# Altium footprint library DPAK_N.PcbLib: 35 footprints (part 1 of 3)
Each footprint in its own frame and in the unit in brackets; x right, y up, seen from the top. Pads: shape width x height; smd on the part's side, far side on the other; paste and mask are expansions set on the pad; w line width, h text height; cw(c..) or ccw(c..) is an arc to the next point about the centre after c.
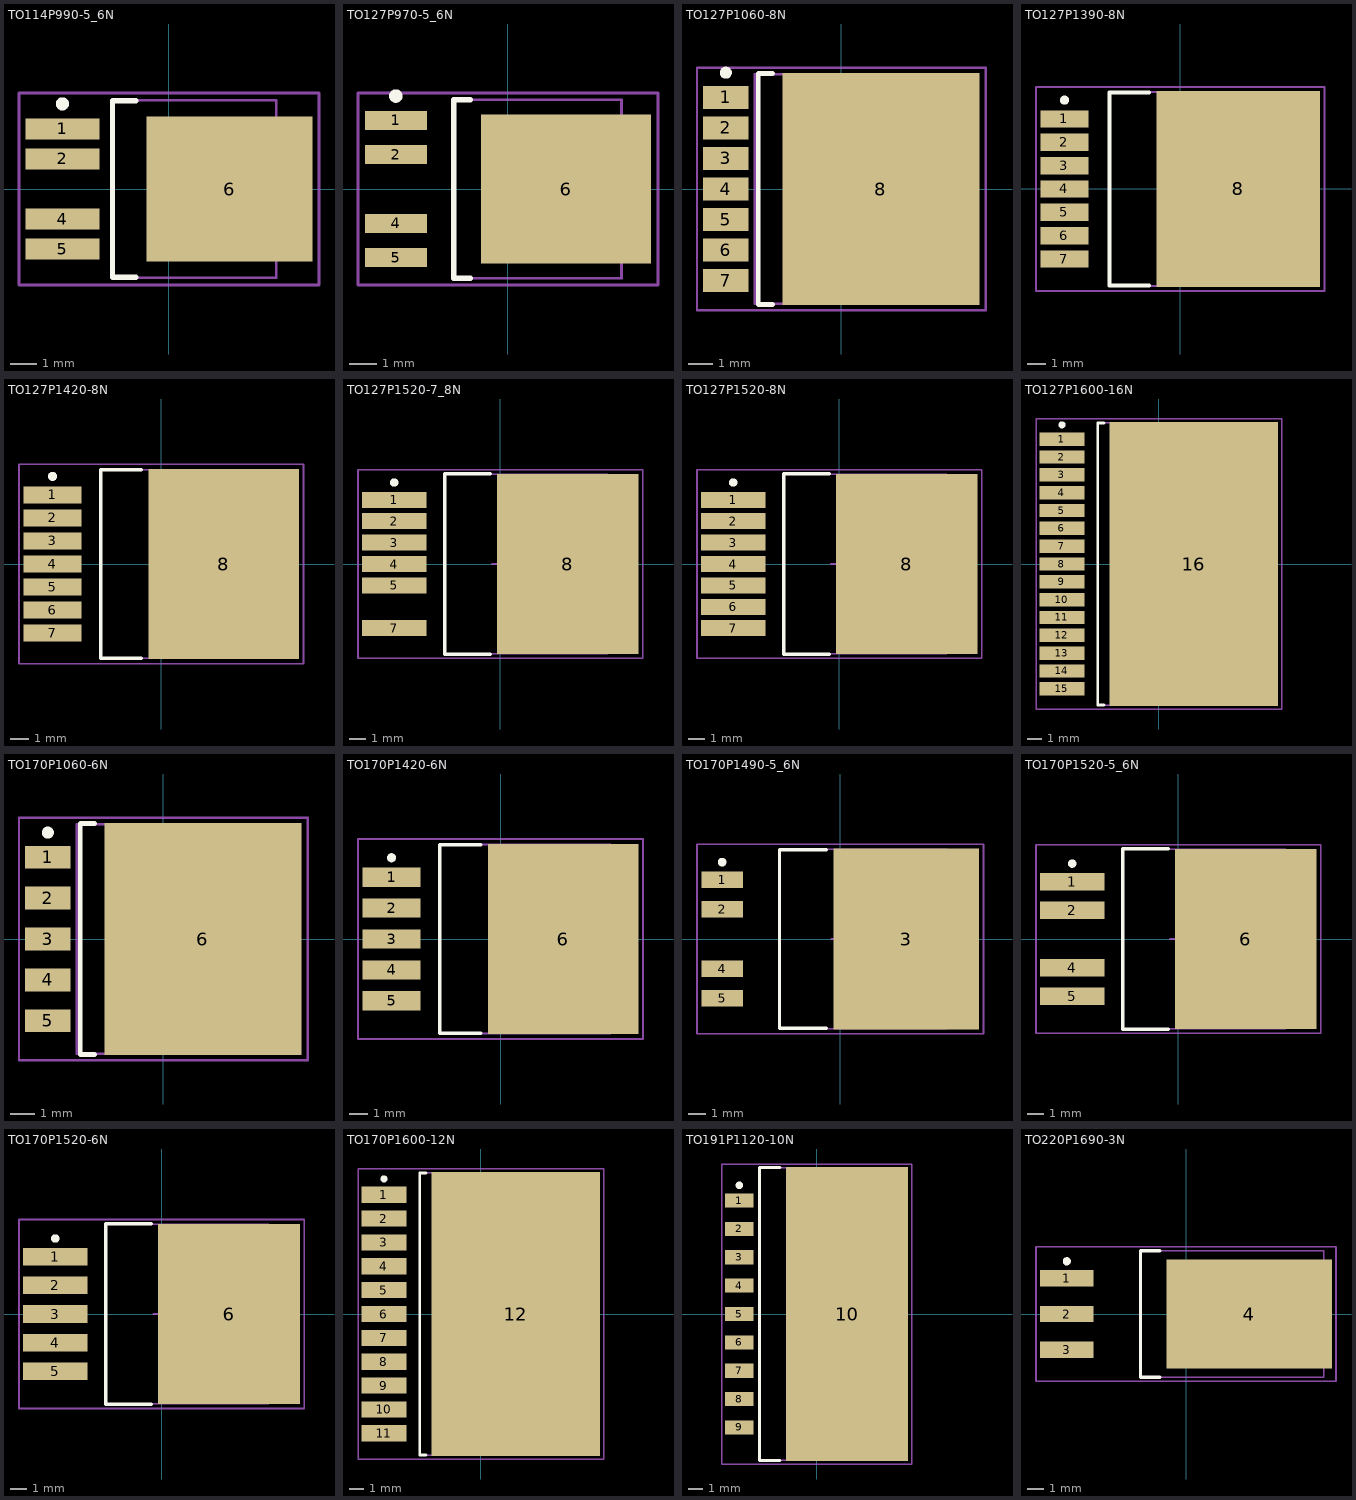
[diagram p0: the footprints below, top view; thin cyan lines are the x and y axes]

## TO114P990-5_6N [mm] "D-PAK, 6-Leads, Body 6.1x6.5mm, Pitch 1.14mm, Lead Span 9.9mm, IPC Medium Density"
height 2.39
pads (5):
  rect 2.8x0.8 smd: 1(-4.05,2.286) 2(-4.05,1.143) 4(-4.05,-1.143) 5(-4.05,-2.286)
  rect 6.3x5.5 smd: 6(2.3,0)
Top Overlay:
  circle w0.25: c-4.05,3.236 r0.125
  lines w0.2: -1.25,-3.35 -2.15,-3.35 -2.15,3.35 -1.25,3.35
Mechanical 13:
  lines w0.1: -2.15,-3.375 4.07,-3.375 4.07,3.375 -2.15,3.375 -2.15,-3.375
Mechanical 15:
  lines w0.1: -0.5,0 0.5,0 ; 0,-0.5 0,0.5 ; -5.7,-3.65 5.7,-3.65 5.7,3.65 -5.7,3.65 -5.7,-3.65
3D body: height 2.39, standoff 0, extent -2.15,-3.375 4.07,3.375

## TO127P970-5_6N [mm] "D-PAK, 6-Leads, Body 6.1x6.5mm, Pitch 1.27mm, Lead Span 9.7mm, IPC Medium Density"
height 2.4
pads (5):
  rect 2.3x0.7 smd: 1(-4.15,2.54) 2(-4.15,1.27) 4(-4.15,-1.27) 5(-4.15,-2.54)
  rect 6.3x5.5 smd: 6(2.15,0)
Top Overlay:
  circle w0.25: c-4.15,3.44 r0.125
  lines w0.2: -1.4,-3.3 -2,-3.3 -2,3.3 -1.4,3.3
Mechanical 13:
  lines w0.1: -2,-3.3 4.2,-3.3 4.2,3.3 -2,3.3 -2,-3.3
Mechanical 15:
  lines w0.1: -0.5,0 0.5,0 ; 0,-0.5 0,0.5 ; -5.55,-3.55 5.55,-3.55 5.55,3.55 -5.55,3.55 -5.55,-3.55
3D body: height 2.4, standoff 0, extent -2,-3.3 4.2,3.3

## TO127P1060-8N [mm] "D-PAK, 8-Leads, Body 8x9.4mm, Pitch 1.27mm, Lead Span 10.6mm, IPC Medium Density"
height 2.05
pads (8):
  rect 1.9x0.95 smd: 1(-4.8,3.81) 2(-4.8,2.54) 3(-4.8,1.27) 4(-4.8,0) 5(-4.8,-1.27) 6(-4.8,-2.54) 7(-4.8,-3.81)
  rect 8.2x9.65 smd: 8(1.65,0)
Top Overlay:
  circle w0.25: c-4.8,4.835 r0.125
  lines w0.2: -2.85,-4.8 -3.45,-4.8 -3.45,4.8 -2.85,4.8
Mechanical 13:
  lines w0.1: -3.6,-4.775 4.55,-4.775 4.55,4.775 -3.6,4.775 -3.6,-4.775
Mechanical 15:
  lines w0.1: -0.5,0 0.5,0 ; 0,-0.5 0,0.5 ; -6,-5.05 6,-5.05 6,5.05 -6,5.05 -6,-5.05
3D body: height 2.05, standoff 0, extent -3.6,-4.775 4.55,4.775

## TO127P1390-8N [mm] "D2-PAK, 8-Leads, Body 8.9x10.2mm, Pitch 1.27mm, Lead Span 13.9mm, IPC Medium Density"
height 4.57
pads (8):
  rect 2.6x0.95 smd: 1(-6.3,3.81) 2(-6.3,2.54) 3(-6.3,1.27) 4(-6.3,0) 5(-6.3,-1.27) 6(-6.3,-2.54) 7(-6.3,-3.81)
  rect 8.9x10.65 smd: 8(3.15,0)
Top Overlay:
  circle w0.25: c-6.3,4.835 r0.125
  lines w0.2: -1.7,-5.25 -3.85,-5.25 -3.85,5.25 -1.7,5.25
Mechanical 13:
  lines w0.1: -3.85,-5.275 5.55,-5.275 5.55,5.275 -3.85,5.275 -3.85,-5.275
Mechanical 15:
  lines w0.1: -0.5,0 0.5,0 ; 0,-0.5 0,0.5 ; -7.85,-5.55 7.85,-5.55 7.85,5.55 -7.85,5.55 -7.85,-5.55
3D body: height 4.57, standoff 0, extent -3.85,-5.275 5.55,5.275

## TO127P1420-8N [mm] "D2-PAK, 8-Leads, Body 8.9x10.1mm, Pitch 1.27mm, Lead Span 14.2mm, IPC Medium Density"
height 4.65
pads (8):
  rect 3.2x0.95 smd: 1(-6,3.81) 2(-6,2.54) 3(-6,1.27) 4(-6,0) 5(-6,-1.27) 6(-6,-2.54) 7(-6,-3.81)
  rect 8.3x10.5 smd: 8(3.45,0)
Top Overlay:
  circle w0.25: c-6,4.835 r0.125
  lines w0.2: -1.1,-5.2 -3.35,-5.2 -3.35,5.2 -1.1,5.2
Mechanical 13:
  lines w0.1: -3.35,-5.2 6.05,-5.2 6.05,5.2 -3.35,5.2 -3.35,-5.2
Mechanical 15:
  lines w0.1: -0.5,0 0.5,0 ; 0,-0.5 0,0.5 ; -7.85,-5.5 7.85,-5.5 7.85,5.5 -7.85,5.5 -7.85,-5.5
3D body: height 4.65, standoff 0, extent -3.35,-5.2 6.05,5.2

## TO127P1520-7_8N [mm] "D2-PAK, 8-Leads, Body 9x10.2mm, Pitch 1.27mm, Lead Span 15.2mm, IPC Medium Density"
height 4.83
pads (7):
  rect 3.8x0.95 smd: 1(-6.3,3.81) 2(-6.3,2.54) 3(-6.3,1.27) 4(-6.3,0) 5(-6.3,-1.27) 7(-6.3,-3.81)
  rect 8.4x10.7 smd: 8(4,0)
Top Overlay:
  circle w0.25: c-6.3,4.835 r0.125
  lines w0.2: -0.6,-5.35 -3.3,-5.35 -3.3,5.35 -0.6,5.35
Mechanical 13:
  lines w0.1: -3.3,-5.325 6.35,-5.325 6.35,5.325 -3.3,5.325 -3.3,-5.325
Mechanical 15:
  lines w0.1: -0.5,0 0.5,0 ; 0,-0.5 0,0.5 ; -8.45,-5.6 8.45,-5.6 8.45,5.6 -8.45,5.6 -8.45,-5.6
3D body: height 4.83, standoff 0, extent -3.3,-5.325 6.35,5.325

## TO127P1520-8N [mm] "D2-PAK, 8-Leads, Body 9x10.2mm, Pitch 1.27mm, Lead Span 15.2mm, IPC Medium Density"
height 4.83
pads (8):
  rect 3.8x0.95 smd: 1(-6.3,3.81) 2(-6.3,2.54) 3(-6.3,1.27) 4(-6.3,0) 5(-6.3,-1.27) 6(-6.3,-2.54) 7(-6.3,-3.81)
  rect 8.4x10.7 smd: 8(4,0)
Top Overlay:
  circle w0.25: c-6.3,4.835 r0.125
  lines w0.2: -0.6,-5.35 -3.3,-5.35 -3.3,5.35 -0.6,5.35
Mechanical 13:
  lines w0.1: -3.3,-5.325 6.35,-5.325 6.35,5.325 -3.3,5.325 -3.3,-5.325
Mechanical 15:
  lines w0.1: -0.5,0 0.5,0 ; 0,-0.5 0,0.5 ; -8.45,-5.6 8.45,-5.6 8.45,5.6 -8.45,5.6 -8.45,-5.6
3D body: height 4.83, standoff 0, extent -3.3,-5.325 6.35,5.325

## TO127P1600-16N [mm] "TO, 16-Leads, Body 10.7x20mm, Pitch 1.27mm, Lead Span 16mm, IPC Medium Density"
height 4.65
pads (16):
  rect 3.2x0.95 smd: 1(-6.9,8.89) 2(-6.9,7.62) 3(-6.9,6.35) 4(-6.9,5.08) 5(-6.9,3.81) 6(-6.9,2.54) 7(-6.9,1.27) 8(-6.9,0) 9(-6.9,-1.27) 10(-6.9,-2.54) 11(-6.9,-3.81) 12(-6.9,-5.08) 13(-6.9,-6.35) 14(-6.9,-7.62) 15(-6.9,-8.89)
  rect 12x20.25 smd: 16(2.5,0)
Top Overlay:
  circle w0.25: c-6.9,9.915 r0.125
  lines w0.2: -3.9,-10.05 -4.35,-10.05 -4.35,10.05 -3.9,10.05
Mechanical 13:
  lines w0.1: -4.35,-10.075 6.47,-10.075 6.47,10.075 -4.35,10.075 -4.35,-10.075
Mechanical 15:
  lines w0.1: -0.5,0 0.5,0 ; 0,-0.5 0,0.5 ; -8.75,-10.35 8.75,-10.35 8.75,10.35 -8.75,10.35 -8.75,-10.35
3D body: height 4.65, standoff 0, extent -4.35,-10.075 6.47,10.075

## TO170P1060-6N [mm] "D-PAK, 6-Leads, Body 8x9.4mm, Pitch 1.7mm, Lead Span 10.6mm, IPC Medium Density"
height 2.05
pads (6):
  rect 1.9x0.95 smd: 1(-4.8,3.4) 2(-4.8,1.7) 3(-4.8,0) 4(-4.8,-1.7) 5(-4.8,-3.4)
  rect 8.2x9.65 smd: 6(1.65,0)
Top Overlay:
  circle w0.25: c-4.8,4.425 r0.125
  lines w0.2: -2.85,-4.8 -3.45,-4.8 -3.45,4.8 -2.85,4.8
Mechanical 13:
  lines w0.1: -3.6,-4.775 4.55,-4.775 4.55,4.775 -3.6,4.775 -3.6,-4.775
Mechanical 15:
  lines w0.1: -0.5,0 0.5,0 ; 0,-0.5 0,0.5 ; -6,-5.05 6,-5.05 6,5.05 -6,5.05 -6,-5.05
3D body: height 2.05, standoff 0, extent -3.6,-4.775 4.55,4.775

## TO170P1420-6N [mm] "D2-PAK, 6-Leads, Body 8.9x10.1mm, Pitch 1.7mm, Lead Span 14.2mm, IPC Medium Density"
height 4.65
pads (6):
  rect 3.2x1.05 smd: 1(-6,3.4) 2(-6,1.7) 3(-6,0) 4(-6,-1.7) 5(-6,-3.4)
  rect 8.3x10.45 smd: 6(3.45,0)
Top Overlay:
  circle w0.25: c-6,4.475 r0.125
  lines w0.2: -1.1,-5.2 -3.35,-5.2 -3.35,5.2 -1.1,5.2
Mechanical 13:
  lines w0.1: -3.35,-5.2 6.05,-5.2 6.05,5.2 -3.35,5.2 -3.35,-5.2
Mechanical 15:
  lines w0.1: -0.5,0 0.5,0 ; 0,-0.5 0,0.5 ; -7.85,-5.5 7.85,-5.5 7.85,5.5 -7.85,5.5 -7.85,-5.5
3D body: height 4.65, standoff 0, extent -3.35,-5.2 6.05,5.2

## TO170P1490-5_6N [mm] "D2-PAK, 6-Leads, Body 9.1x10.3mm, Pitch 1.7mm, Lead Span 14.9mm, IPC Medium Density"
height 4.55
pads (5):
  rect 2.4x0.95 smd: 1(-6.8,3.4) 2(-6.8,1.7) 4(-6.8,-1.7) 5(-6.8,-3.4)
  rect 8.4x10.45 smd: 3(3.8,0)
Top Overlay:
  circle w0.25: c-6.8,4.425 r0.125
  lines w0.2: -0.8,-5.15 -3.5,-5.15 -3.5,5.15 -0.8,5.15
Mechanical 13:
  lines w0.1: -3.5,-5.175 6.15,-5.175 6.15,5.175 -3.5,5.175 -3.5,-5.175
Mechanical 15:
  lines w0.1: -0.5,0 0.5,0 ; 0,-0.5 0,0.5 ; -8.25,-5.45 8.25,-5.45 8.25,5.45 -8.25,5.45 -8.25,-5.45
3D body: height 4.55, standoff 0, extent -3.5,-5.175 6.15,5.175

## TO170P1520-5_6N [mm] "D2-PAK, 6-Leads, Body 9x10.2mm, Pitch 1.7mm, Lead Span 15.2mm, IPC Medium Density"
height 4.83
pads (5):
  rect 3.8x1.05 smd: 1(-6.3,3.4) 2(-6.3,1.7) 4(-6.3,-1.7) 5(-6.3,-3.4)
  rect 8.4x10.7 smd: 6(4,0)
Top Overlay:
  circle w0.25: c-6.3,4.475 r0.125
  lines w0.2: -0.6,-5.35 -3.3,-5.35 -3.3,5.35 -0.6,5.35
Mechanical 13:
  lines w0.1: -3.3,-5.325 6.35,-5.325 6.35,5.325 -3.3,5.325 -3.3,-5.325
Mechanical 15:
  lines w0.1: -0.5,0 0.5,0 ; 0,-0.5 0,0.5 ; -8.45,-5.6 8.45,-5.6 8.45,5.6 -8.45,5.6 -8.45,-5.6
3D body: height 4.83, standoff 0, extent -3.3,-5.325 6.35,5.325

## TO170P1520-6N [mm] "D2-PAK, 6-Leads, Body 9x10.2mm, Pitch 1.7mm, Lead Span 15.2mm, IPC Medium Density"
height 4.83
pads (6):
  rect 3.8x1.05 smd: 1(-6.3,3.4) 2(-6.3,1.7) 3(-6.3,0) 4(-6.3,-1.7) 5(-6.3,-3.4)
  rect 8.4x10.65 smd: 6(4,0)
Top Overlay:
  circle w0.25: c-6.3,4.475 r0.125
  lines w0.2: -0.6,-5.35 -3.3,-5.35 -3.3,5.35 -0.6,5.35
Mechanical 13:
  lines w0.1: -3.3,-5.325 6.35,-5.325 6.35,5.325 -3.3,5.325 -3.3,-5.325
Mechanical 15:
  lines w0.1: -0.5,0 0.5,0 ; 0,-0.5 0,0.5 ; -8.45,-5.6 8.45,-5.6 8.45,5.6 -8.45,5.6 -8.45,-5.6
3D body: height 4.83, standoff 0, extent -3.3,-5.325 6.35,5.325

## TO170P1600-12N [mm] "TO, 12-Leads, Body 10.7x20mm, Pitch 1.7mm, Lead Span 16mm, IPC Medium Density"
height 4.65
pads (12):
  rect 3.2x1.15 smd: 1(-6.9,8.5) 2(-6.9,6.8) 3(-6.9,5.1) 4(-6.9,3.4) 5(-6.9,1.7) 6(-6.9,0) 7(-6.9,-1.7) 8(-6.9,-3.4) 9(-6.9,-5.1) 10(-6.9,-6.8) 11(-6.9,-8.5)
  rect 12x20.25 smd: 12(2.5,0)
Top Overlay:
  circle w0.25: c-6.9,9.625 r0.125
  lines w0.2: -3.9,-10.05 -4.35,-10.05 -4.35,10.05 -3.9,10.05
Mechanical 13:
  lines w0.1: -4.35,-10.075 6.47,-10.075 6.47,10.075 -4.35,10.075 -4.35,-10.075
Mechanical 15:
  lines w0.1: -0.5,0 0.5,0 ; 0,-0.5 0,0.5 ; -8.75,-10.35 8.75,-10.35 8.75,10.35 -8.75,10.35 -8.75,-10.35
3D body: height 4.65, standoff 0, extent -4.35,-10.075 6.47,10.075

## TO191P1120-10N [mm] "TO, 10-Leads, Body 8.7x19.6mm, Pitch 1.91mm, Lead Span 11.2mm, IPC Medium Density"
height 2.05
pads (10):
  rect 1.9x0.95 smd: 1(-5.2,7.64) 2(-5.2,5.73) 3(-5.2,3.82) 4(-5.2,1.91) 5(-5.2,0) 6(-5.2,-1.91) 7(-5.2,-3.82) 8(-5.2,-5.73) 9(-5.2,-7.64)
  rect 8.2x19.8 smd: 10(2.05,0)
Top Overlay:
  circle w0.25: c-5.2,8.665 r0.125
  lines w0.2: -2.45,-9.85 -3.85,-9.85 -3.85,9.85 -2.45,9.85
Mechanical 13:
  lines w0.1: -3.85,-9.85 4.95,-9.85 4.95,9.85 -3.85,9.85 -3.85,-9.85
Mechanical 15:
  lines w0.1: -0.5,0 0.5,0 ; 0,-0.5 0,0.5 ; -6.4,-10.1 6.4,-10.1 6.4,10.1 -6.4,10.1 -6.4,-10.1
3D body: height 2.05, standoff 0, extent -3.85,-9.85 4.95,9.85

## TO220P1690-3N [mm] "Single-Ended SM Package, 3-Leads, Body 10.9x7.6mm, Pitch 2.2mm, Lead Span 16.9mm, IPC Medium Density"
height 2.7
pads (4):
  rect 3.3x1 smd: 1(-7.35,2.2) 2(-7.35,0) 3(-7.35,-2.2)
  rect 10.2x6.7 smd: 4(3.9,0)
Top Overlay:
  circle w0.25: c-7.35,3.25 r0.125
  lines w0.2: -1.6,-3.9 -2.8,-3.9 -2.8,3.9 -1.6,3.9
Mechanical 13:
  lines w0.1: -2.8,-3.9 8.5,-3.9 8.5,3.9 -2.8,3.9 -2.8,-3.9
Mechanical 15:
  lines w0.1: -0.5,0 0.5,0 ; 0,-0.5 0,0.5 ; -9.25,-4.15 9.25,-4.15 9.25,4.15 -9.25,4.15 -9.25,-4.15
3D body: height 2.7, standoff 0, extent -2.8,-3.9 8.5,3.9